# Altium schematic symbol library L9958SBTR.SchLib: 1 symbol
Pins are listed as number, name and electrical type; pins without a type are passive.

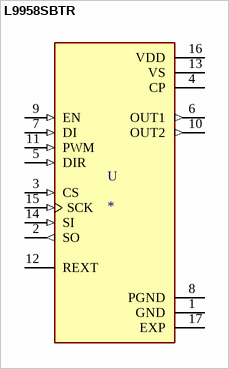
[diagram p0: symbol L9958SBTR]

## L9958SBTR
designator U
Bipolar Motor Driver CMOS SPI PowerSO-16â„¢; MF: STMicroelectronics; MP: L9958SBTR; Package: SO-16 STMicroelectronics; Value: *; Price: None; Availability: Unavailable; SnapEDA_Link: https://www.snapeda.com/parts/L9958SBTR/STMicroelectronics/view-part/588510/?ref=snap
footprint SOP80P1410X360-17N
pins: 1 GND (power), 2 SO (out), 3 CS (in), 4 CP (power), 5 DIR (in), 6 OUT1 (out), 7 DI (in), 8 PGND (power), 9 EN (in), 10 OUT2 (out), 11 PWM (in), 12 REXT, 13 VS (power), 14 SI (in), 15 SCK (in), 16 VDD (power), 17 EXP (power)